# Altium schematic symbol library AnalogDevicesSW.SchLib: 93 symbols (part 2 of 3)
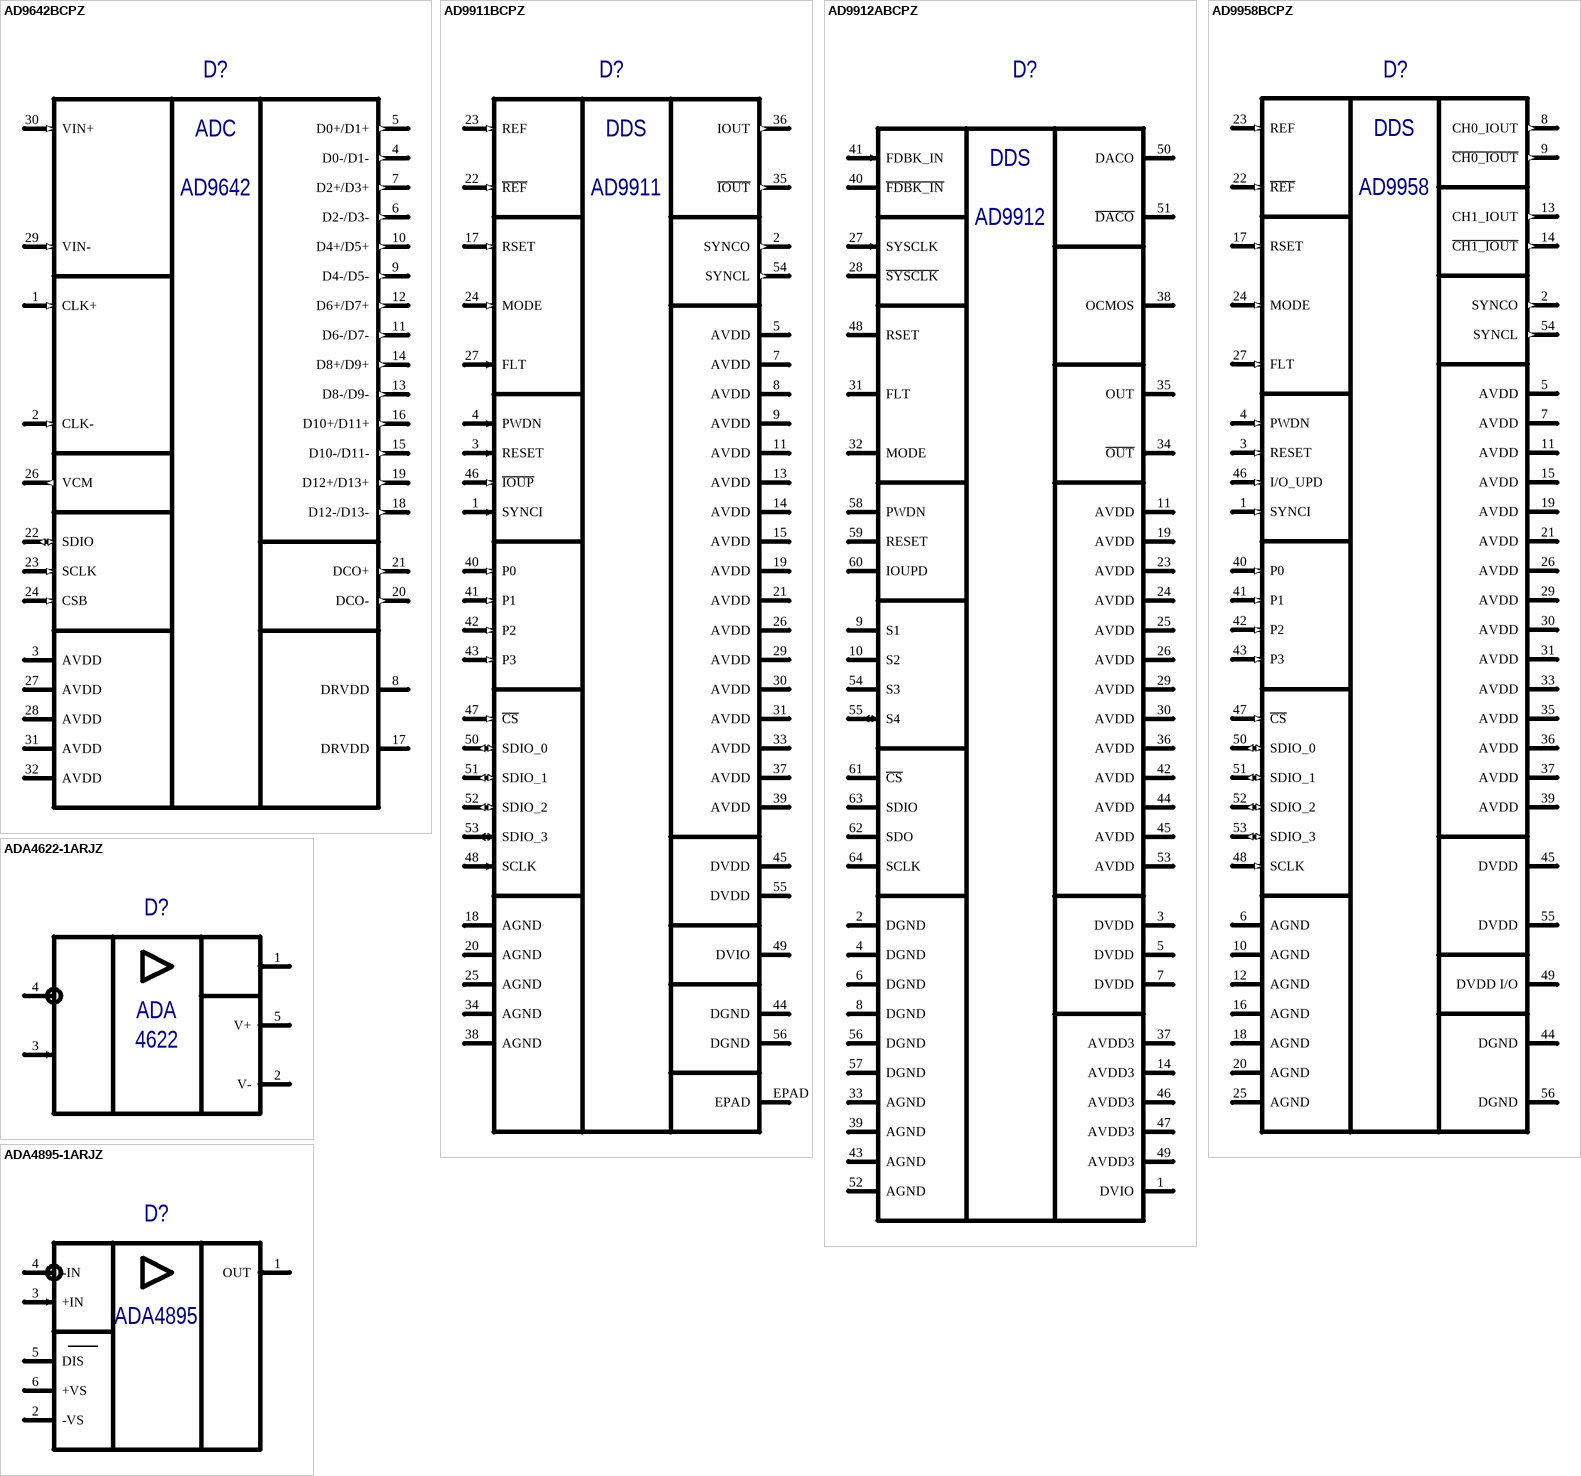
[diagram p11: symbols AD9642BCPZ to ADA4895-1ARJZ]

## AD9911BCPZ
designator D?  (value not drawn)
500 MSPS Direct Digital Synthesizer; Manufacturer: Analog Devices; Type: Микросхема; BCPId: *; Name: *; Package: CP-56-1; ManufacturerPartNumber: AD9911BCPZ; HelpURL: *; Price: *; Rem: *; TU/GOST: *
footprint QFN50P800X800X100-57N (QFN, 56-Leads, Body 8,00x8,00mm, Pitch 0,50mm, Thermal Pad 6,25x6,25mm, IPC Medium Density)
pins: 1 SYNCI (in) "Synchronizes Multiple AD9911 Devices", 2 SYNCO (out) "Synchronizes Multiple AD9911 Devices", 3 RESET (in) "Active High Reset Pin", 4 PWDN (in) "External Power-Down Control", 5 AVDD (power) "Analog Power Supply Pins (1.8 V)", 6 NC hidden "No Connection", 7 AVDD (power) "Analog Power Supply Pins (1.8 V)", 8 AVDD (power) "Analog Power Supply Pins (1.8 V)", 9 AVDD (power) "Analog Power Supply Pins (1.8 V)", 10 NC hidden "No Connection", 11 AVDD (power) "Analog Power Supply Pins (1.8 V)", 12 NC hidden "No Connection", 13 AVDD (power) "Analog Power Supply Pins (1.8 V)", 14 AVDD (power) "Analog Power Supply Pins (1.8 V)", 15 AVDD (power) "Analog Power Supply Pins (1.8 V)", 16 NC hidden "No Connection", 17 RSET (in) "Establishes the Reference Current for the DAC", 18 AGND (power) "Analog Ground Pins", 19 AVDD (power) "Analog Power Supply Pins (1.8 V)", 20 AGND (power) "Analog Ground Pins", 21 AVDD (power) "Analog Power Supply Pins (1.8 V)", 22 ~{REF} (in) "Complementary Reference Clock/Oscillator Input", 23 REF (in) "Reference Clock/Oscillator Input", 24 MODE (in) "Control Pin for the Oscillator", 25 AGND (power) "Analog Ground Pins", 26 AVDD (power) "Analog Power Supply Pins (1.8 V)", 27 FLT (in) "Connects to the External Zero Compensation Network of the PLL Loop Filter", 28 NC hidden "No Connection", 29 AVDD (power) "Analog Power Supply Pins (1.8 V)", 30 AVDD (power) "Analog Power Supply Pins (1.8 V)", 31 AVDD (power) "Analog Power Supply Pins (1.8 V)", 32 NC hidden "No Connection", 33 AVDD (power) "Analog Power Supply Pins (1.8 V)", 34 AGND (power) "Analog Ground Pins", 35 ~{IOUT} (out) "Complementary DAC Output", 36 IOUT (out) "True DAC Output", 37 AVDD (power) "Analog Power Supply Pins (1.8 V)", 38 AGND (power) "Analog Ground Pins", 39 AVDD (power) "Analog Power Supply Pins (1.8 V)", 40 P0 (in) "These data pins are used for modulation", 41 P1 (in) "These data pins are used for modulation", 42 P2 (in) "These data pins are used for modulation", 43 P3 (in) "These data pins are used for modulation", 44 DGND (power) "Digital Power Ground Pins", 45 DVDD (power) "Digital Power Supply Pins (1.8 V)", 46 ~{IOUP} (in) "A rising edge triggers data transfer from the I/O port buffer to active registers", 47 ~{CS} (in) "The active low chip select allows multiple devices to share a common I/O bus (SPI)", 48 SCLK (in) "Data Clock for I/O Operations", 49 DVIO (power) "3.3 V Digital Power Supply for SPI Port and Digital I/O", 50 SDIO_0 (io) "Data pin SDIO_0 is dedicated to the I/O port only", 51 SDIO_1 (io) "Data pins SDIO_1:3 can be used for the I/O port", 52 SDIO_2 (io) "Data pins SDIO_1:3 can be used for the I/O port", 53 SDIO_3 (io) "Data pins SDIO_1:3 can be used for the I/O port", 54 SYNCL (out) "The SYNC_CLK, which runs at ? the system clock rate, can be disabled", 55 DVDD (power) "Digital Power Supply Pins (1.8 V)", 56 DGND (power) "Digital Power Ground Pins", EPAD (power) "Exposed Paddle. The exposed paddle must be connected to AGND."
text: DDS; AD9911

## AD9912ABCPZ
designator D?  (value not drawn)
1 GSPS Direct Digital Synthesizer with 14-bit DAC; Manufacturer: Analog Devices; Type: Микросхема; SymAuthor: Ерешко П.А.; BCPId: *; Name: *; Package: CP-64-7; ManufacturerPartNumber: AD9912ABCPZ; HelpURL: *; Price: *; Rem: *; TU/GOST: *
footprint QFN50P900X900X100-65N (QFN, 64-Leads, Body 9,0x9,0mm (max), Pitch 0,50mm, IPC Medium Density)
footprint QFN50P900X900X100-65N - HS1 (QFN, 64-Leads, Body 9,0x9,0mm (max), Pitch 0,50mm, IPC Medium Density)
pins: 1 DVIO "I/O Digital Supply", 2 DGND "Digital Ground", 3 DVDD "Digital Supply", 4 DGND "Digital Ground", 5 DVDD "Digital Supply", 6 DGND "Digital Ground", 7 DVDD "Digital Supply", 8 DGND "Digital Ground", 9 S1 "Start-Up Configuration Pins", 10 S2 "Start-Up Configuration Pins", 11 AVDD "Analog Supply. Connect to a nominal 1.8 V supply", 12 NC hidden "No Connection", 13 NC hidden "No Connection", 14 AVDD3 "Analog Supply. Connect to a nominal 3.3 V supply", 15 NC hidden "No Connection", 16 NC hidden "No Connection", 17 NC hidden "No Connection", 18 NC hidden "No Connection", 19 AVDD "Analog Supply. Connect to a nominal 1.8 V supply", 20 NC hidden "No Connection", 21 NC hidden "No Connection", 22 NC hidden "No Connection", 23 AVDD "Analog Supply. Connect to a nominal 1.8 V supply", 24 AVDD "Analog Supply. Connect to a nominal 1.8 V supply", 25 AVDD "Analog Supply. Connect to a nominal 1.8 V supply", 26 AVDD "Analog Supply. Connect to a nominal 1.8 V supply", 27 SYSCLK (in) "System Clock Input", 28 ~{SYSCLK} "Complementary System Clock", 29 AVDD "Analog Supply. Connect to a nominal 1.8 V supply", 30 AVDD "Analog Supply. Connect to a nominal 1.8 V supply", 31 FLT "System Clock Multiplier Loop Filter", 32 MODE "Clock Mode Select", 33 AGND "Analog Ground", 34 ~{OUT} (out) "Complementary HSTL Output", 35 OUT "HSTL Output", 36 AVDD "Analog Supply. Connect to a nominal 1.8 V supply", 37 AVDD3 "Analog Supply for CMOS Output Driver. This pin is normally 3.3 V but can be 1.8 V", 38 OCMOS "CMOS Output", 39 AGND "Analog Ground", 40 ~{FDBK_IN} "Complementary Feedback Input", 41 FDBK_IN (in) "Feedback Input", 42 AVDD "Analog Supply. Connect to a nominal 1.8 V supply", 43 AGND "Analog Ground", 44 AVDD "Analog Supply. Connect to a nominal 1.8 V supply", 45 AVDD "Analog Supply. Connect to a nominal 1.8 V supply", 46 AVDD3 "Analog Supply. Connect to a nominal 3.3 V supply", 47 AVDD3 "Analog Supply. Connect to a nominal 3.3 V supply", 48 RSET "DAC Output Current Setting Resistor", 49 AVDD3 "Analog Supply. Connect to a nominal 3.3 V supply", 50 DACO "DAC Output", 51 ~{DACO} "Complementary DAC Output", 52 AGND "Analog Ground", 53 AVDD "Analog Supply. Connect to a nominal 1.8 V supply", 54 S3 "Start-Up Configuration Pins", 55 S4 (io) "Start-Up Configuration Pins", 56 DGND "Digital Ground", 57 DGND "Digital Ground", 58 PWDN "Power-Down", 59 RESET "Chip Reset", 60 IOUPD "I/O Update", 61 ~{CS} "Chip Select", 62 SDO "Serial Data Output", 63 SDIO "Serial Data Input/Output", 64 SCLK "Serial Programming Clock", EPAD GND hidden to GND "The exposed die pad must be connected to GND"
text: DDS; AD9912

## AD9958BCPZ
designator D?  (value not drawn)
2-Channel, 500 MSPS DDS  with 10-Bit DACs; Manufacturer: Analog Devices; Type: Микросхема; SymAuthor: Юдин Д.Г.; BCPId: *; Name: *; Package: CP-56-1; ManufacturerPartNumber: AD9958BCPZ; HelpURL: *; Price: *; Rem: *; TU/GOST: *
footprint QFN50P800X800X100-57N (QFN, 56-Leads, Body 8,00x8,00mm, Pitch 0,50mm, Thermal Pad 6,25x6,25mm, IPC Medium Density)
pins: 1 SYNCI (in) "Synchronizes Multiple AD9958 Devices", 2 SYNCO (out) "Synchronizes Multiple AD9958 Devices", 3 RESET (in) "Active High Reset Pin", 4 PWDN (in) "External Power-Down Control", 5 AVDD (power) "Analog Power Supply Pin (1.8 V)", 6 AGND (power) "Analog Ground Pin.", 7 AVDD (power) "Analog Power Supply Pin (1.8 V)", 8 CH0_IOUT (out) "True DAC Output. Terminates into AVDD.", 9 ~{CH0_IOUT} (out) "Complementary DAC Output. Terminates into AVDD.", 10 AGND (power) "Analog Ground Pin.", 11 AVDD (power) "Analog Power Supply Pin (1.8 V)", 12 AGND (power) "Analog Ground Pin.", 13 CH1_IOUT (out) "True DAC Output. Terminates into AVDD.", 14 ~{CH1_IOUT} (out) "Complementary DAC Output. Terminates into AVDD.", 15 AVDD (power) "Analog Power Supply Pin (1.8 V)", 16 AGND (power) "Analog Ground Pin.", 17 RSET (in) "Establishes the Reference Current for All DACs. A 1.91 kΩ resistor (nominal) is connected from Pin 17 to AGND.", 18 AGND (power) "Analog Ground Pin", 19 AVDD (power) "Analog Power Supply Pin (1.8 V)", 20 AGND (power) "Analog Ground Pin", 21 AVDD (power) "Analog Power Supply Pin (1.8 V)", 22 ~{REF} (in) "Complementary Reference Clock/Oscillator Input.", 23 REF (in) "Reference Clock/Oscillator Input.", 24 MODE (in) "Control Pin for the Oscillator Section.", 25 AGND (power) "Analog Ground Pin", 26 AVDD (power) "Analog Power Supply Pin (1.8 V)", 27 FLT (in) "Connects to the external zero compensation network of the PLL loop filter.", 28 NC hidden "No Connection.", 29 AVDD (power) "Analog Power Supply Pin (1.8 V)", 30 AVDD (power) "Analog Power Supply Pin (1.8 V)", 31 AVDD (power) "Analog Power Supply Pin (1.8 V)", 32 NC hidden "No Connection", 33 AVDD (power) "Analog Power Supply Pin (1.8 V)", 34 NC hidden "No Connection.", 35 AVDD (power) "Analog Power Supply Pin (1.8 V)", 36 AVDD (power) "Analog Power Supply Pin (1.8 V)", 37 AVDD (power) "Analog Power Supply Pin (1.8 V)", 38 NC hidden "No Connection.", 39 AVDD (power) "Analog Power Supply Pin (1.8 V)", 40 P0 (in) "Data pins used for modulation (FSK, PSK, ASK), to start/stop for the sweep   accumulators, or used to ramp up/ramp down the output amplitude.", 41 P1 (in) "Data pins used for modulation (FSK, PSK, ASK), to start/stop for the sweep   accumulators, or used to ramp up/ramp down the output amplitude.", 42 P2 (in) "Data pins used for modulation (FSK, PSK, ASK), to start/stop for the sweep   accumulators, or used to ramp up/ramp down the output amplitude.", 43 P3 (in) "Data pins used for modulation (FSK, PSK, ASK), to start/stop for the sweep   accumulators, or used to ramp up/ramp down the output amplitude.", 44 DGND (power) "Digital Power Ground Pin.", 45 DVDD (power) "Digital Power Supply Pin (1.8 V)", 46 I/O_UPD (in) "A rising edge transfers data from the serial I/O port buffer to active registers.", 47 ~{CS} (in) "Active Low Chip Select.", 48 SCLK (in) "Serial Data Clock for I/O Operations.", 49 DVDD I/O (power) "3.3 V Digital Power Supply for SPI Port and Digital I/O.", 50 SDIO_0 (io) "Data Pin SDIO_0 is dedicated to the serial port I/O only.", 51 SDIO_1 (io) "Data pins SDIO_1 can be used for the I/O port", 52 SDIO_2 (io) "Data pins SDIO_2 can be used for the I/O port", 53 SDIO_3 (io) "Data pins SDIO_3 can be used for the I/O port", 54 SYNCL (out) "The SYNC_CLK runs at one fourth the system clock rate.", 55 DVDD (power) "Digital Power Supply Pin (1.8 V)", 56 DGND (power) "Digital Power Ground Pin.", EPAD (power) hidden to GND "Exposed Paddle. The exposed paddle must be connected to AGND."
text: DDS; AD9958

## ADA4622-1ARJZ
designator D?  (value not drawn)
30 V, 8 MHz, Low Bias Current, Single-Supply, RRO, Precision Op Amp; Manufacturer: Analog Devices; Type: Микросхема; SymAuthor: Ерешко П.А.; Package: RJ-5; ManufacturerPartNumber: ADA4622-1ARJZ
footprint SOT23-5 (5-Lead Small Outline Transistor Package)
pins: 1 OUT (out), 2 V- (power) "0V power pin", 3 IN+ (in), 4 IN- (in), 5 V+ (power) "5 V to 30 V power pin"
text: ADA; 4622

## ADA4895-1ARJZ
designator D?  (value not drawn)
Low Power, 1 nV/√Hz, G ≥ 10 Stable, Rail-to-Rail  Output Amplifier; Manufacturer: Analog Devices; Type: Микросхема; BCPId: *; Name: *; Package: SOT-23 (RJ-6); ManufacturerPartNumber: ADA4895-1ARJZ
footprint SOT95P280X145-6N (SOT23, 6-Leads, Body 1,6x2,9mm, Pitch 0,95mm)
pins: 1 OUT (out), 2 -VS (power) "0V power pin", 3 +IN (in), 4 -IN (in), 5 DIS (power) "5 V to 30 V power pin", 6 +VS (power) "5 V to 30 V power pin"
text: ADA4895

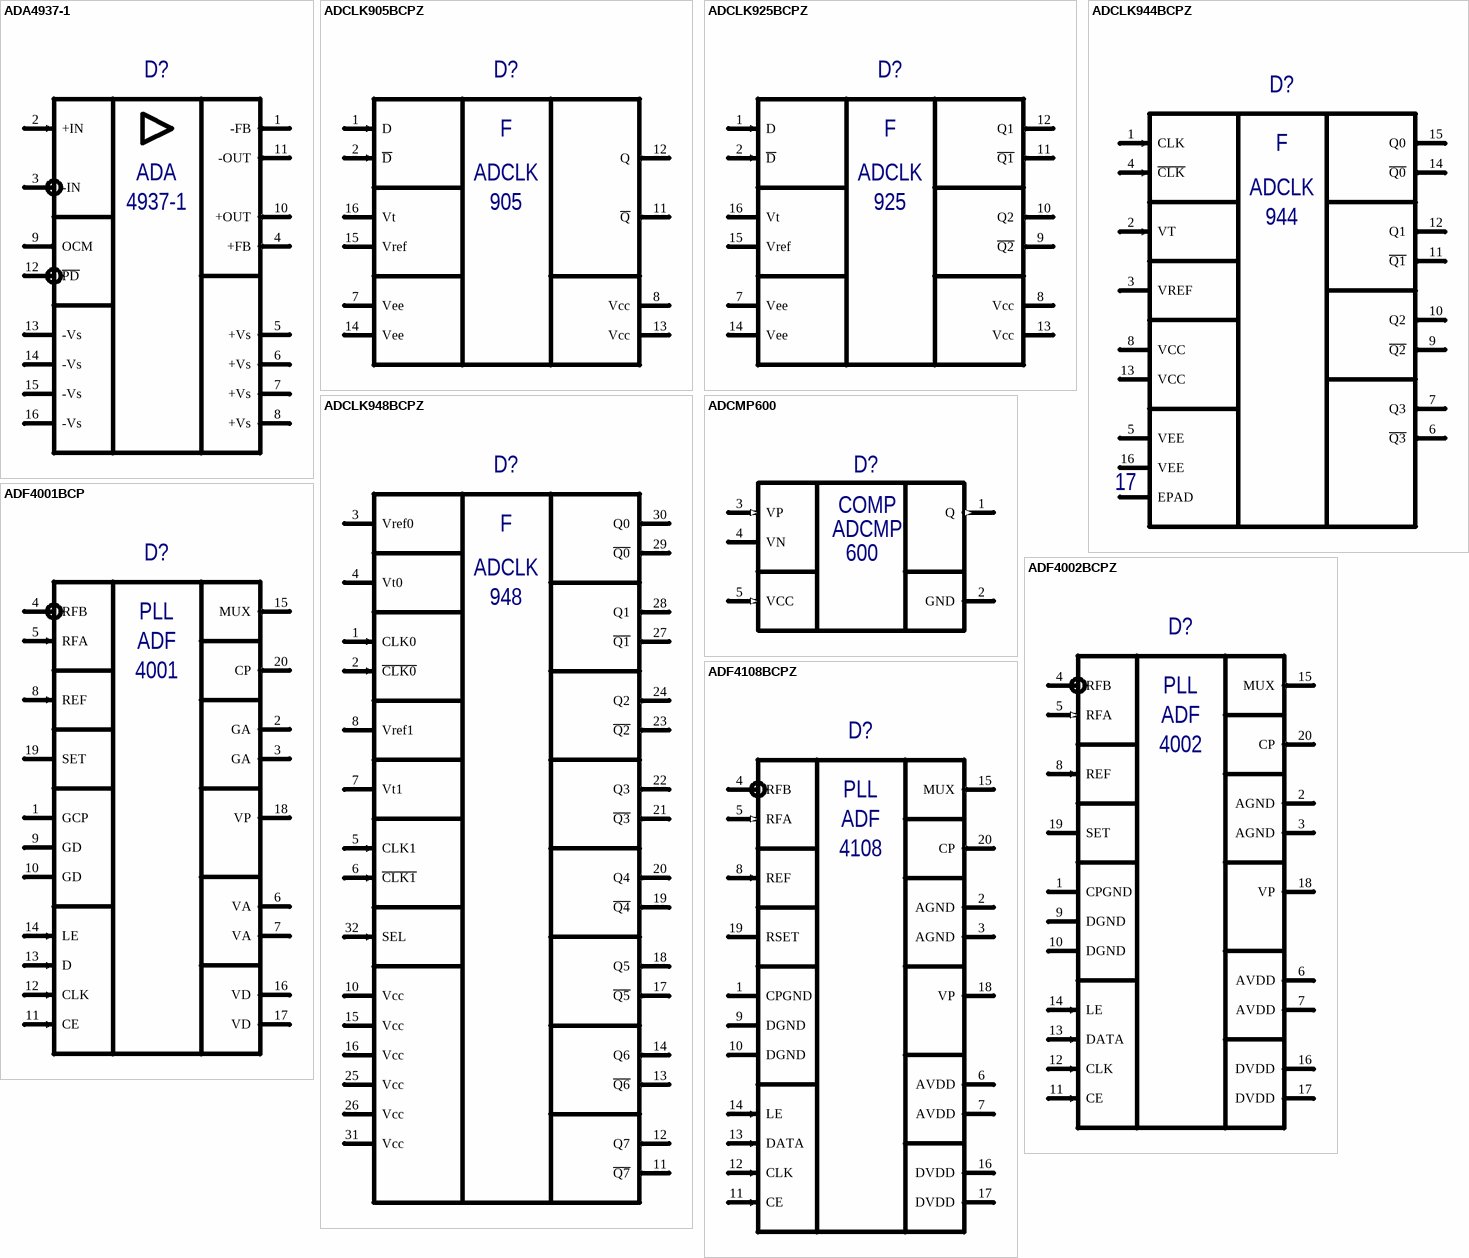
[diagram p5: symbols ADA4937-1 to ADF4108BCPZ]

## ADA4937-1
designator D?, comment ADA4937-1****-**  (value not drawn)
Ultralow Distortion  Differential ADC Driver; Manufacturer: Analog Devices; Type: Микросхема; SymAuthor: Ерешко П.А.; BCPId: *; Name: *; Package: CP-16-21; ManufacturerPartNumber: ADA4937-1****-**
footprint QFN50P300X300X80_HS145x145-17N (QFN, 16-Leads, Body 3,00x3,00mm, Pitch 0,50mm, Thermal Pad 1,45x1,45mm, IPC Medium Density)
pins: 1 -FB (out) "Negative Output for Feedback Component Connection", 2 +IN (in) "Positive Input Summing Node", 3 -IN (in) "Negative Input Summing Node", 4 +FB (out) "Positive Output for Feedback  Component Connection", 5 +Vs (power) "Positive Supply Voltage", 6 +Vs (power) "Positive Supply Voltage", 7 +Vs (power) "Positive Supply Voltage", 8 +Vs (power) "Positive Supply Voltage", 9 OCM (out) "Output Common-Mode Voltage", 10 +OUT (out) "Positive Output for Load Connection", 11 -OUT (out) "Negative Output for Load Connection", 12 ~{PD} (in) "Power-Down Pin", 13 -Vs (power) "Negative Supply Voltage", 14 -Vs (power) "Negative Supply Voltage", 15 -Vs (power) "Negative Supply Voltage", 16 -Vs (power) "Negative Supply Voltage"
text: ADA; 4937-1

## ADCLK905BCPZ
designator D?  (value not drawn)
Ultrafast SiGe ECL Clock/Data Buffer; Manufacturer: Analog Devices; Type: Микросхема; SymAuthor: Ерешко П.А.; BCPId: *; Name: *; Package: CP-16-3; ManufacturerPartNumber: ADCLK905BCPZ; HelpURL: *; Price: *; Rem: *; TU/GOST: *
footprint QFN50P300X300X90_HS165x165-17N (QFN, 16-Leads, Body 3,00x3,00mm, Pitch 0,50mm, Thermal Pad 1,65x1,65mm, IPC Medium Density)
pins: 1 D (in) "Differential input positive", 2 ~{D} (in) "Differential input negative", 3 hidden "No connection", 4 hidden "No connection", 5 hidden "No connection", 6 hidden "No connection", 7 Vee (power) "Negative Supply Voltage", 8 Vcc (power) "Positive Supply Voltage", 9 NC hidden "No Connect.", 10 NC hidden "No Connect.", 11 ~{Q} (out) "Differential LVPECL output", 12 Q (out) "Differential LVPECL output", 13 Vcc (power) "Positive Supply Voltage", 14 Vee (power) "Negative Supply Voltage", 15 Vref "Reference voltage for biasing ac-coupled inputs", 16 Vt (power) "Center tap of 100 Ohm input resistor", EPAD NC hidden "No Connect."
text: F; ADCLK; 905

## ADCLK925BCPZ
designator D?  (value not drawn)
Ultrafast SiGe ECL Clock/Data Buffers; Manufacturer: Analog Devices; Type: Микросхема; BCPId: *; Name: *; Package: CP-16-3; ManufacturerPartNumber: ADCLK925BCPZ; HelpURL: *; Price: *; Rem: *; TU/GOST: *
footprint QFN50P300X300X90_HS165x165-17N (QFN, 16-Leads, Body 3,00x3,00mm, Pitch 0,50mm, Thermal Pad 1,65x1,65mm, IPC Medium Density)
pins: 1 D (in) "Differential input positive", 2 ~{D} (in) "Differential input negative", 3 hidden "No connection", 4 hidden "No connection", 5 hidden "No connection", 6 hidden "No connection", 7 Vee (power) "Negative Supply Voltage", 8 Vcc (power) "Positive Supply Voltage", 9 ~{Q2} (out) "Differential LVPECL output", 10 Q2 (out) "Differential LVPECL output", 11 ~{Q1} (out) "Differential LVPECL output", 12 Q1 (out) "Differential LVPECL output", 13 Vcc (power) "Positive Supply Voltage", 14 Vee (power) "Negative Supply Voltage", 15 Vref "Reference voltage for biasing ac-coupled inputs", 16 Vt (power) "Center tap of 100 Ohm input resistor", EPAD NC hidden "No Connect."
text: F; ADCLK; 925

## ADCLK944BCPZ
designator D?  (value not drawn)
Four LVPECL Outputs,  SiGe Clock Fanout Buffer; Manufacturer: Analog Devices; Type: Микросхема; SymAuthor: Антонов М.С.; BCPId: *; HelpURL: *; ManufacturerPartNumber: ADCLK944BCPZ; Name: *; Package: CP-16-18; Price: *; Rem: *; TU/GOST: *
footprint QFN50P300X300X80_HS160x160-17N (QFN, 16-Leads, Body 3,00x3,00mm, Pitch 0,50mm, Thermal Pad 1,60x1,60mm, IPC Medium Density)
pins: 1 CLK  (in) "Differential Input (Positive).", 2 VT  (in) "Center Tap. This pin provides the center tap of a 100 Ω input resistor for the CLK and CLKinputs.", 3 VREF  (power) "Reference Voltage. This pin provides the reference voltage for biasing ac-coupled CLK and CLKinputs.", 4 ~{CLK} (in) "Differential Input (Negative).", 5 VEE  (power) "Negative Supply Pin.", 6 ~{Q3} (out) "Differential LVPECL Outputs.", 7 Q3 (out) "Differential LVPECL Outputs.", 8 VCC (power) "Positive Supply Pin.", 9 ~{Q2} (out) "Differential LVPECL Outputs.", 10 Q2 (out) "Differential LVPECL Outputs.", 11 ~{Q1} (out) "Differential LVPECL Outputs.", 12 Q1 (out) "Differential LVPECL Outputs.", 13 VCC (power) "Positive Supply Pin.", 14 ~{Q0} (out) "Differential LVPECL Outputs.", 15 Q0 (out) "Differential LVPECL Outputs.", 16 VEE  (power) "Negative Supply Pin.", EPAD (power) "The exposed pad must be connected to VEE."
text: F; ADCLK; 944; 17

## ADCLK948BCPZ
designator D?  (value not drawn)
Two Selectable Inputs, 8 LVPECL Outputs, SiGe Clock Fanout Buffer; Manufacturer: Analog Devices; Type: Микросхема; BCPId: *; Name: *; Package: CP-32-4; ManufacturerPartNumber: ADCLK948BCPZ; HelpURL: *; Price: *; Rem: *; TU/GOST: *
footprint QFN50P500X500X100-32N+285x285 (QFN, 32-Leads, Body 5,0x5,0mm (max), Pitch 0,50mm, IPC Medium Density with thermal tab 2.85x2.85)
pins: 1 CLK0 (in) "Differential input positive 0", 2 ~{CLK0} (in) "Differential input negative 0", 3 Vref0 "Reference voltage for biasing ac-coupled CLK0 and CLK0 inputs", 4 Vt0 "Center tap of a 100 Ohm input resistor for CLK0 and CLK0 inputs", 5 CLK1 (in) "Differential input positive 1", 6 ~{CLK1} (in) "Differential input negative 1", 7 Vt1 "Center tap of a 100 Ohm input resistor for CLK1 and CLK1 inputs", 8 Vref1 "Reference voltage for biasing ac-coupled CLK1 and CLK1 inputs", 9 NC hidden "No connection", 10 Vcc (power) "3.3 V Power Pin", 11 ~{Q7} (out) "Differential LVPECL output", 12 Q7 (out) "Differential LVPECL output", 13 ~{Q6} (out) "Differential LVPECL output", 14 Q6 (out) "Differential LVPECL output", 15 Vcc (power) "3.3 V Power Pin", 16 Vcc (power) "3.3 V Power Pin", 17 ~{Q5} (out) "Differential LVPECL output", 18 Q5 (out) "Differential LVPECL output", 19 ~{Q4} (out) "Differential LVPECL output", 20 Q4 (out) "Differential LVPECL output", 21 ~{Q3} (out) "Differential LVPECL output", 22 Q3 (out) "Differential LVPECL output", 23 ~{Q2} (out) "Differential LVPECL output", 24 Q2 (out) "Differential LVPECL output", 25 Vcc (power) "3.3 V Power Pin", 26 Vcc (power) "3.3 V Power Pin", 27 ~{Q1} (out) "Differential LVPECL output", 28 Q1 (out) "Differential LVPECL output", 29 ~{Q0} (out) "Differential LVPECL output", 30 Q0 (out) "Differential LVPECL output", 31 Vcc (power) "3.3 V Power Pin", 32 SEL (in) "Input Select. Logic 0 selects CLK0 inputs. Logic 1 selects CLK1 inputs.", EPAD (power) hidden to GND "The exposed die pad must be connected to GND"
text: F; ADCLK; 948

## ADCMP600
designator D?, comment ADCMP600BKSZ  (value not drawn)
Rail-to-Rail, Very Fast, 2.5 V to 5.5 V,  Single-Supply TTL/CMOS Comparator; Manufacturer: Analog Devices, Inc.; Type: Микросхема; BCPId: *; Name: *; Package: SC70 5-Lead (KS-5); ManufacturerPartNumber: ADCMP600BKSZ
footprint SOT65P210X110-5N (SOT, 5-Leads, Body 1,25x2,00mmx1.10 (max), Pitch 0,65mm)
pins: 1 Q (out) "Noninverting Output", 2 GND (power), 3 VP (in) "Noninverting Analog Input", 4 VN (power) "Inverting Analog Input", 5 VCC (in) "Input Section Supply/Output Section Supply"
text: COMP; ADCMP; 600

## ADF4001BCP
designator D?  (value not drawn)
200 MHz Clock Generator PLL; Manufacturer: Analog Devices; Type: Микросхема; BCPId: *; Name: *; Package: CP-20; ManufacturerPartNumber: ADF4001BCP
footprint QFN50P400X400X100-20N (QFN, 20-Leads, Body 4,0x4,0mm (max), Pitch 0,50mm, IPC Medium Density)
pins: 1 GCP (power) "Charge Pump Ground", 2 GA (power) "Analog Ground", 3 GA (power) "Analog Ground", 4 RFB (in) "Complementary Input to the N counter", 5 RFA (in) "Input to the N counter", 6 VA (power) "Analog Power Supply", 7 VA (power) "Analog Power Supply", 8 REF (in) "Reference Input", 9 GD (power) "Digital Ground", 10 GD (power) "Digital Ground", 11 CE (in) "Chip Enable", 12 CLK (in) "Serial Clock Input", 13 D (in) "Serial Data Input", 14 LE (in) "Load Enable", 15 MUX (out) "Multiplexer output", 16 VD (power) "Digital Power Supply", 17 VD (power) "Digital Power Supply", 18 VP (power) "Charge Pump Power Supply", 19 SET "Sets the maximum charge pump output current", 20 CP (out) "Charge Pump Output", EPAD hidden to GND "The user should connect thermal pad to AGND"
text: PLL; ADF; 4001

## ADF4002BCPZ
designator D?  (value not drawn)
Phase Detector/Frequency Synthesizer; Manufacturer: Analog Devices; Type: Микросхема; BCPId: *; Name: *; Package: CP-20-1 (LFCSP_VQ); ManufacturerPartNumber: ADF4002BCPZ
footprint QFN50P400X400X100-20N (QFN, 20-Leads, Body 4,0x4,0mm (max), Pitch 0,50mm, IPC Medium Density)
pins: 1 CPGND (power) "Charge Pump Ground", 2 AGND (power) "Analog Ground", 3 AGND (power) "Analog Ground", 4 RFB (in) "Complementary Input to the RF Input", 5 RFA (in) "Complementary Input to the N counter", 6 AVDD (power) "Analog Power Supply", 7 AVDD (power) "Analog Power Supply", 8 REF (in) "Reference Input", 9 DGND (power) "Digital Ground", 10 DGND (power) "Digital Ground", 11 CE (in) "Chip Enable", 12 CLK (in) "Serial Clock Input", 13 DATA (in) "Serial Data Input", 14 LE (in) "Load Enable", 15 MUX (out) "Multiplexer output", 16 DVDD (power) "Digital Power Supply", 17 DVDD (power) "Digital Power Supply", 18 VP (power) "Charge Pump Power Supply", 19 SET (power) "Sets the maximum charge pump output current", 20 CP (out) "Charge Pump Output", EPAD (power) hidden to GND "The user should connect thermal pad to AGND"
text: PLL; ADF; 4002

## ADF4108BCPZ
designator D?  (value not drawn)
PLL Frequency Synthesizer; Manufacturer: Analog Devices; Type: Микросхема; SymAuthor: Юдин Д.Г.; BCPId: *; Name: *; Package: CP-20-6 (LFCSP_WQ); ManufacturerPartNumber: ADF4108BCPZ
footprint QFN50P400X400X100-20N (QFN, 20-Leads, Body 4,0x4,0mm (max), Pitch 0,50mm, IPC Medium Density)
pins: 1 CPGND (power) "Charge Pump Ground", 2 AGND (power) "Analog Ground", 3 AGND (power) "Analog Ground", 4 RFB (in) "Complementary Input to the RF Input", 5 RFA (in) "Complementary Input to the N counter", 6 AVDD (power) "Analog Power Supply", 7 AVDD (power) "Analog Power Supply", 8 REF (in) "Reference Input", 9 DGND (power) "Digital Ground", 10 DGND (power) "Digital Ground", 11 CE (in) "Chip Enable", 12 CLK (in) "Serial Clock Input", 13 DATA (in) "Serial Data Input", 14 LE (in) "Load Enable", 15 MUX (out) "Multiplexer output", 16 DVDD (power) "Digital Power Supply", 17 DVDD (power) "Digital Power Supply", 18 VP (power) "Charge Pump Power Supply", 19 RSET (power) "Sets the maximum charge pump output current", 20 CP (out) "Charge Pump Output", EPAD (power) hidden to GND "The user should connect thermal pad to AGND"
text: PLL; ADF; 4108

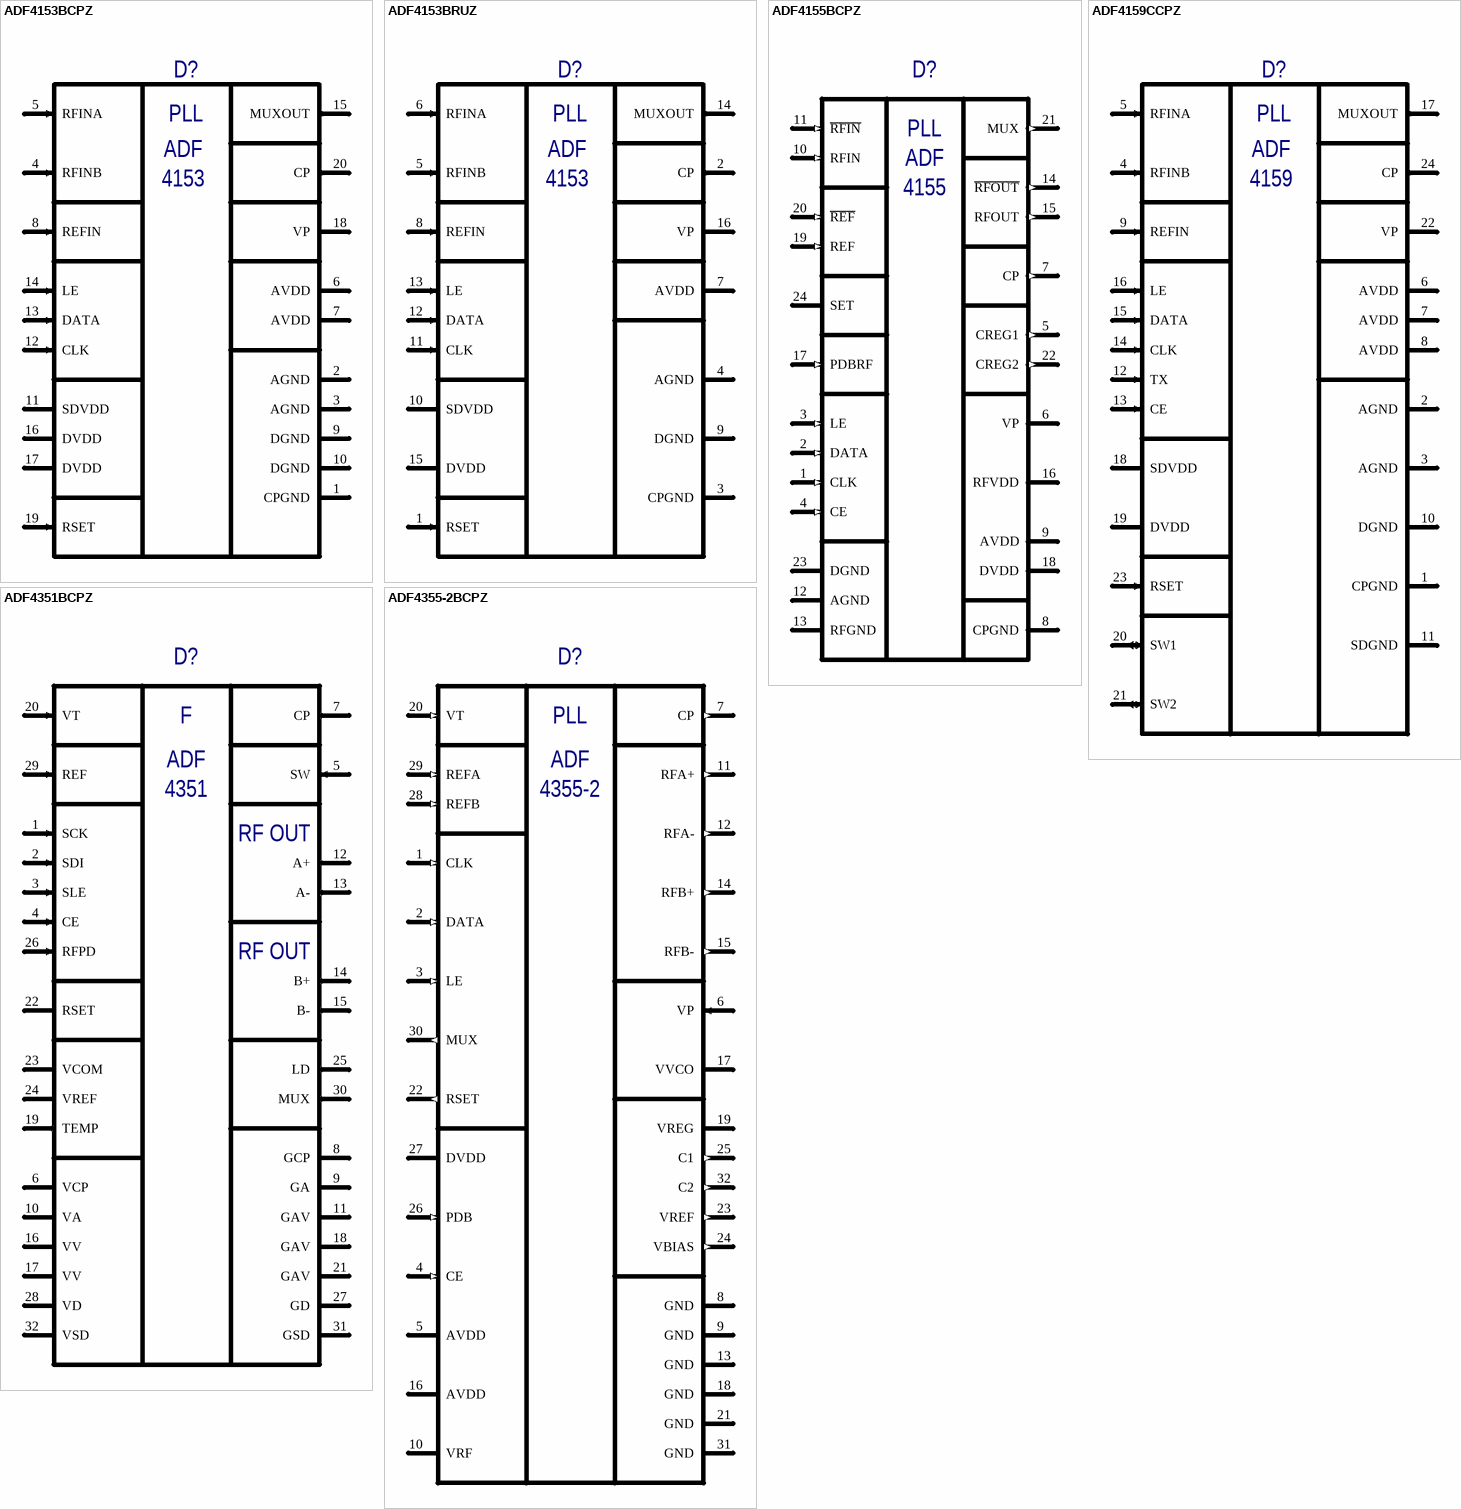
[diagram p6: symbols ADF4153BCPZ to ADF4355-2BCPZ]

## ADF4153BCPZ
designator D?  (value not drawn)
4 GHz Microwave PLL Synthesizer; Manufacturer: Analog Devices; Type: Микросхема; SymAuthor: Юдин Д.Г.; BCPId: *; Package: CP-20-1; ManufacturerPartNumber: ADF4153BCPZ
footprint QFN50P400X400X100-20N (QFN, 20-Leads, Body 4,0x4,0mm (max), Pitch 0,50mm, IPC Medium Density)
pins: 1 CPGND (power) "CP GND", 2 AGND (power) "Analog GND", 3 AGND (power) "Analog GND", 4 RFINB (in), 5 RFINA (in), 6 AVDD (power) "Analog Power Supply", 7 AVDD (power) "Analog Power Supply", 8 REFIN (in) "Reference Input. This is a CMOS input with a nominal threshold of DVDD/2 and a dc equivalent input   resistance of 100 kΩ", 9 DGND (power) "Digital GND", 10 DGND (power) "Digital GND", 11 SDVDD (power) "SDVdd", 12 CLK (in) "Serial Clock Input", 13 DATA (in) "Serial Data Input", 14 LE (in) "Load Enable", 15 MUXOUT (out) "This multiplexer output allows either the lock detect, the scaled RF, or the scaled reference frequency to be   accessed externally.", 16 DVDD (power) "Digital Power Supply", 17 DVDD (power) "Digital Power Supply", 18 VP (power) "Charge Pump Power Supply.", 19 RSET (in) "Rset", 20 CP (out) "Charge Pump Output", EPAD (power) hidden to GND "Exposed Pad. The exposed pad must be connected to GND."
text: PLL; ADF; 4153

## ADF4153BRUZ
designator D?  (value not drawn)
4 GHz Microwave PLL Synthesizer; Manufacturer: Analog Devices; Type: Микросхема; BCPId: *; Package: RU-16; ManufacturerPartNumber: ADF4153BRUZ
footprint SOP65P640X120-16N (SOP, 16-Leads, Body 5,00x4,40mm, Pitch 0,65mm, IPC Medium Density)
pins: 1 RSET (in) "Rset", 2 CP (out) "Charge Pump Output", 3 CPGND (power) "CP GND", 4 AGND (power) "Analog GND", 5 RFINB (in), 6 RFINA (in), 7 AVDD (power) "Analog Power Supply", 8 REFIN (in) "Reference Input. This is a CMOS input with a nominal threshold of DVDD/2 and a dc equivalent input   resistance of 100 kΩ", 9 DGND (power) "Digital GND", 10 SDVDD (power) "SDVdd", 11 CLK (in) "Serial Clock Input", 12 DATA (in) "Serial Data Input", 13 LE (in) "Load Enable", 14 MUXOUT (out) "This multiplexer output allows either the lock detect, the scaled RF, or the scaled reference frequency to be   accessed externally.", 15 DVDD (power) "Digital Power Supply", 16 VP (power) "Charge Pump Power Supply."
text: PLL; ADF; 4153

## ADF4155BCPZ
designator D?  (value not drawn)
Integer-N/Fractional-N PLL Synthesizer; Manufacturer: Analog Devices; Type: Микросхема; SymAuthor: Юдин Д.Г.; BCPId: *; Name: *; Package: CP-24-7; ManufacturerPartNumber: ADF4155BCPZ
footprint QFN50P400X400X80_HS-25N (QFN, 24-Leads, Body 4,00x4,00mm, Pitch 0,50mm, Thermal Pad 2,75x2,75mm, IPC Medium Density)
pins: 1 CLK (in) "Serial Clock Input.", 2 DATA (in) "Serial Data Input", 3 LE (in) "Load Enable Input.", 4 CE (in) "Chip Enable.", 5 CREG1 (out) "Output of Internal LDO.", 6 VP (power) "Charge Pump Power Supply.", 7 CP (out) "Charge Pump Output.", 8 CPGND (power) "Charge Pump Ground.", 9 AVDD (power) "Analog Power Supply.", 10 RFIN (in) "RF Input", 11 ~{RFIN} (in) "Complementary RF Input.", 12 AGND (power) "Analog Ground.", 13 RFGND (power) "RF Ground.", 14 ~{RFOUT} (out) "Complementary RF Output.", 15 RFOUT (out) "RF Output.", 16 RFVDD (power) "Analog Power Supply for RF Outputs.", 17 PDBRF (in) "RF Power-Down.", 18 DVDD (power) "Digital Power Supply", 19 REF (in) "Reference Input.", 20 ~{REF} (in) "Complementary Reference Input.", 21 MUX (out) "Multiplexer output", 22 CREG2 (out) "Output of Internal LDO.", 23 DGND (power) "Digital Ground", 24 SET (power) "Connect a resistor between this pin and ground to set the charge pump output current.", EPAD (power) hidden to GND "The user should connect thermal pad to AGND"
text: PLL; ADF; 4155

## ADF4159CCPZ
designator D?  (value not drawn)
13 GHz, Fractional-N Frequency Synthesizer; Manufacturer: Analog Devices; Type: Микросхема; SymAuthor: Юдин Д.Г.; BCPId: *; Package: CP-24-10; ManufacturerPartNumber: ADF4159CCPZ
footprint QFN50P400X400X100-25N (QFN, 24-Leads, Body 4,00x4,00mm, Pitch 0,50mm, Thermal Pad 2.45x2.45mm, IPC Medium Density)
pins: 1 CPGND (power) "CP GND", 2 AGND (power) "Analog GND", 3 AGND (power) "Analog GND", 4 RFINB (in), 5 RFINA (in), 6 AVDD (power) "Analog Power Supply", 7 AVDD (power) "Analog Power Supply", 8 AVDD (power) "Analog Power Supply", 9 REFIN (in) "Reference Input. This is a CMOS input with a nominal threshold of DVDD/2 and a dc equivalent input   resistance of 100 kΩ", 10 DGND (power) "Digital GND", 11 SDGND (power) "SD GND", 12 TX (in) "TX data", 13 CE (in) "Chip enable", 14 CLK (in) "Serial Clock Input", 15 DATA (in) "Serial Data Input", 16 LE (in) "Load Enable", 17 MUXOUT (out) "This multiplexer output allows either the lock detect, the scaled RF, or the scaled reference frequency to be   accessed externally.", 18 SDVDD (power) "SDVdd", 19 DVDD (power) "Digital Power Supply", 20 SW1 (io) "Switches for Fast Lock", 21 SW2 (io) "Switches for Fast Lock", 22 VP (power) "Charge Pump Power Supply.", 23 RSET (in) "Rset", 24 CP (out) "Charge Pump Output. When enabled, this provides ±ICP to the external loop filter, which in turn drives the   external VCO.", EPAD (power) hidden to GND "Exposed Pad. The exposed pad must be connected to GND."
text: PLL; ADF; 4159

## ADF4351BCPZ
designator D?  (value not drawn)
Wideband Synthesizer with Integrated VCO; Manufacturer: Analog Devices; Type: Микросхема; BCPId: *; Name: *; Package: CP-32-2; ManufacturerPartNumber: ADF4351BCPZ; HelpURL: *; Price: *; Rem: *; TU/GOST: *
footprint QFN50P500X500X100-32N+325x325 (QFN, 32-Leads, Body 5,0x5,0mm (max), Pitch 0,50mm, IPC Medium Density with thermal tab 3.25x3.25)
pins: 1 SCK (in) "Serial Clock Signal", 2 SDI (in) "Serial Data In", 3 SLE (in) "Load Enable", 4 CE (in) "Chip Enable", 5 SW (in) "Fast Lock Switch", 6 VCP (power) "Charge Pump Power Supply", 7 CP (out) "Charge Pump Output", 8 GCP (power) "Charge Pump Ground", 9 GA (power) "Analog Ground", 10 VA (power) "Analog Power Supply", 11 GAV (power) "VCO Analog Ground", 12 A+ (out) "VCO Output", 13 A- (out) "VCO Output", 14 B+ (out) "Auxiliary VCO Output", 15 B- (out) "Auxiliary VCO Output", 16 VV (power) "Power Supply for the VCO", 17 VV (power) "Power Supply for the VCO", 18 GAV (power) "VCO Analog Ground", 19 TEMP (out) "Temperature Compensation Output", 20 VT (in) "Control Input to the VCO", 21 GAV (power) "VCO Analog Ground", 22 RSET "Connecting a resistor between this pin and ground sets the charge pump output current", 23 VCOM "Internal Compensation Node", 24 VREF "Reference Voltage", 25 LD (out) "Lock Detect Output Pin", 26 RFPD (in) "RF Power-Down", 27 GD (power) "Digital Ground", 28 VD (power) "Digital Power Supply", 29 REF (in) "Reference Input", 30 MUX (out) "Multiplexer Output", 31 GSD (power) "Digital sigma-delta modulator ground", 32 VSD (power) "Power Supply Pin for the Digital sigma-delta Modulator", EPAD GND (power) hidden to GND "The exposed die pad must be connected to GND"
text: F; ADF; 4351; RF OUT

## ADF4355-2BCPZ
designator D?  (value not drawn)
Wideband Synthesizer with Integrated VCO 54 MHz to 4400 MHz; Manufacturer: Analog Devices; Type: Микросхема; SymAuthor: Гордиенко А.; BCPId: *; Name: *; Package: CP-32-12; ManufacturerPartNumber: ADF4355-2BCPZ; HelpURL: *; Price: *; Rem: *; TU/GOST: *
footprint QFN50P500X500X80-33N (QFN, 32-Leads, Body 5,00x5,00mm, Pitch 0,50mm, Thermal Pad 3,75x3,75mm, IPC Medium Density)
pins: 1 CLK (in) "Serial Clock Input", 2 DATA (in) "Serial Data Input", 3 LE (in) "Load Enable, CMOS Input", 4 CE (in) "Chip Enable", 5 AVDD (power) "Analog Power Supply", 6 VP (in) "Charge Pump Power Supply", 7 CP (out) "Charge Pump Output", 8 GND (power) "Charge Pump Ground", 9 GND (power) "Analog Ground", 10 VRF (power) "Power Supply for the RF Output", 11 RFA+ (out) "VCO Output", 12 RFA- (out) "Complementary VCO Output", 13 GND (power) "RF Output Stage Ground", 14 RFB+ (out) "Auxiliary VCO Output", 15 RFB- (out) "Complementary Auxiliary VCO Output", 16 AVDD (power) "Analog Power Supply", 17 VVCO (power) "Power Supply for the VCO", 18 GND (power) "VCO Ground", 19 VREG "VCO Compensation Node", 20 VT (in) "Control Input to the VCO", 21 GND (power) "VCO Ground", 22 RSET (out) "Bias Current Resistor", 23 VREF (out) "Internal Compensation Node", 24 VBIAS (out) "Reference Voltage", 25 C1 (out) "Outputs from the LDO Regulator", 26 PDB (in) "RF Power-Down", 27 DVDD (power) "Digital Power Supply", 28 REFB (in) "Complementary Reference Input", 29 REFA (in) "Reference Input", 30 MUX (out) "Multiplexer Output", 31 GND (power) "Digital Σ-Δ Modulator Ground", 32 C2 (out) "Outputs from the LDO Regulator", EPAD GND (power) hidden to GND "Exposed Pad"
text: PLL; ADF; 4355-2

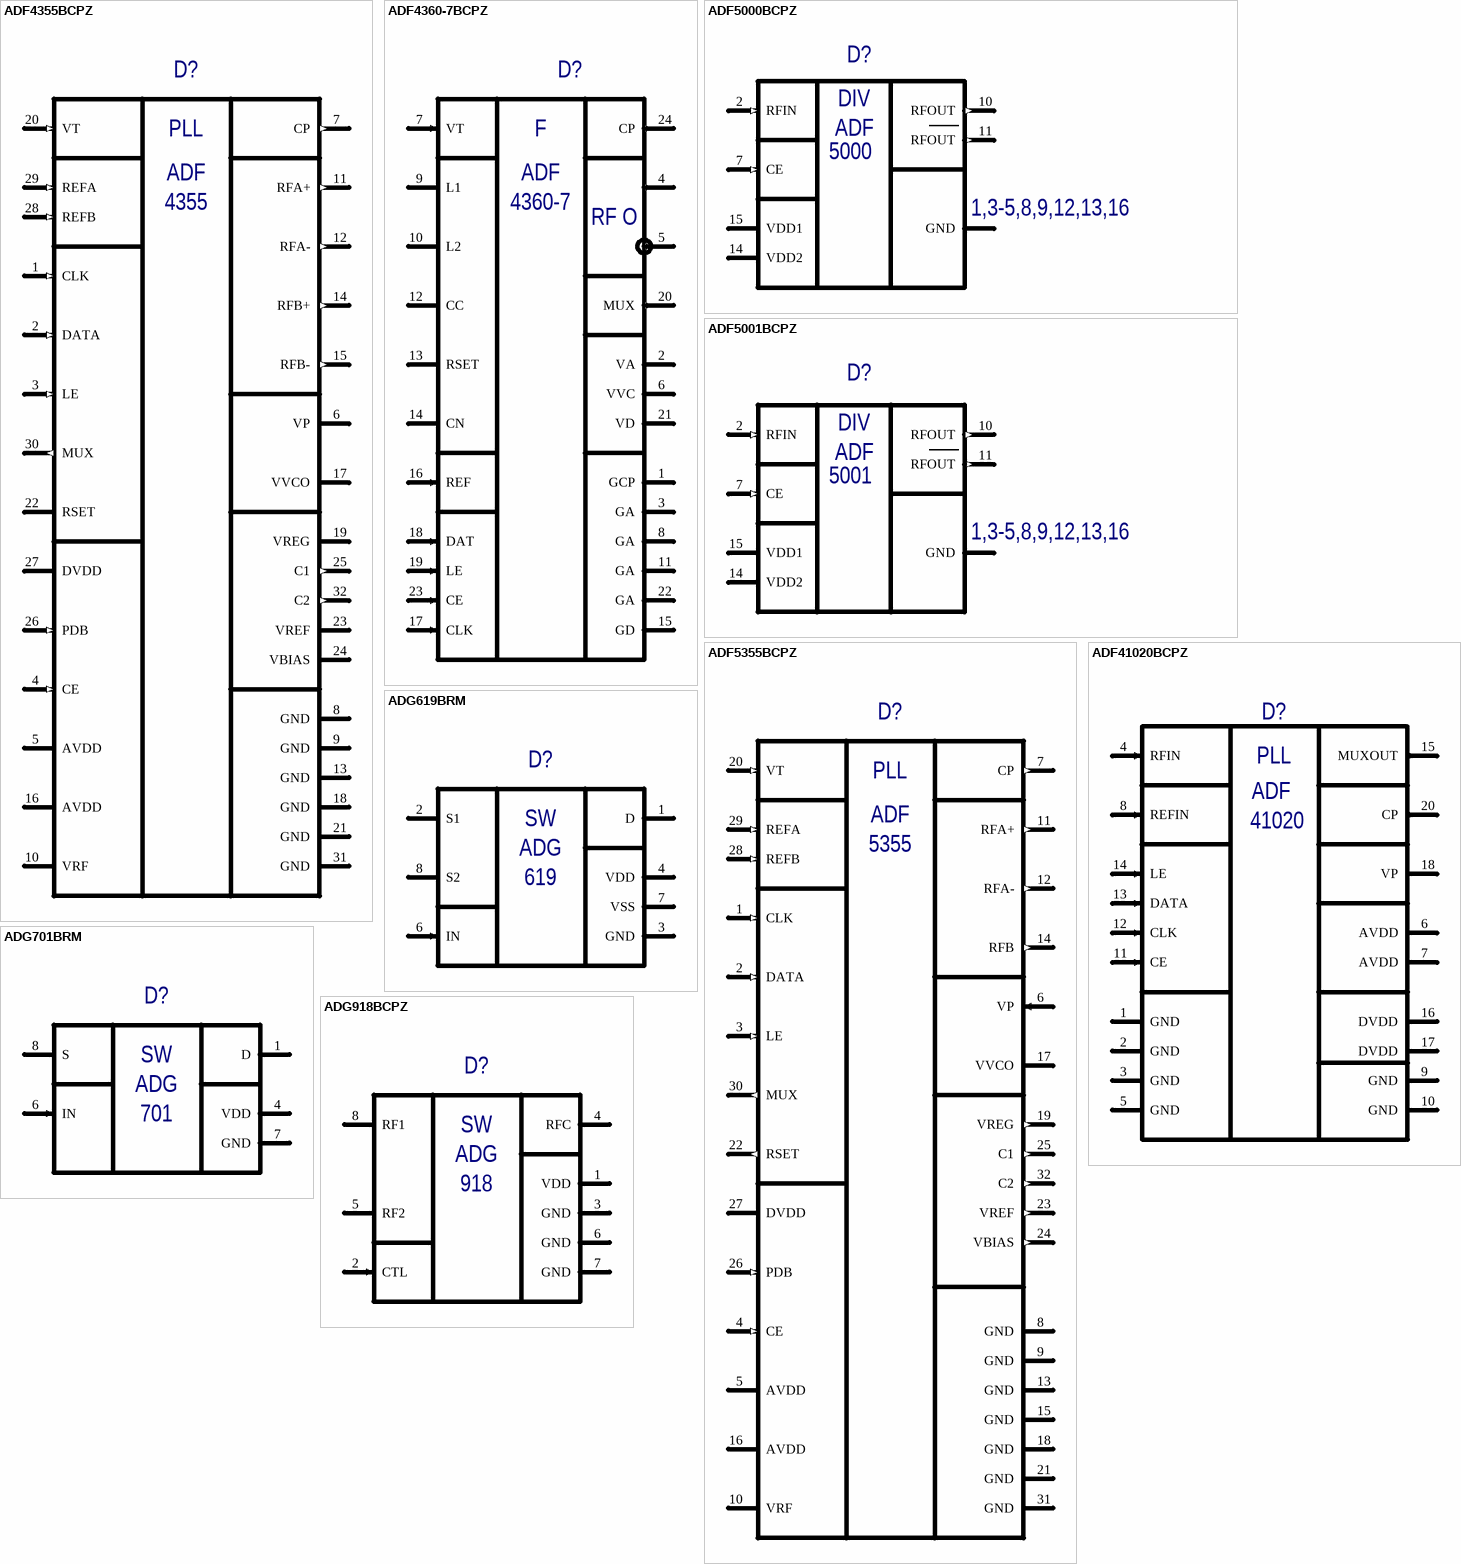
[diagram p7: symbols ADF4355BCPZ to ADG918BCPZ]

## ADF4355BCPZ
designator D?  (value not drawn)
Wideband Synthesizer with Integrated VCO 54 MHz to 6800 MHz; Manufacturer: Analog Devices; Type: Микросхема; BCPId: *; Name: *; Package: CP-32-12; ManufacturerPartNumber: ADF4355BCPZ; HelpURL: *; Price: *; Rem: *; TU/GOST: *
footprint QFN50P500X500X80-33N (QFN, 32-Leads, Body 5,00x5,00mm, Pitch 0,50mm, Thermal Pad 3,75x3,75mm, IPC Medium Density)
pins: 1 CLK (in) "Serial Clock Input", 2 DATA (in) "Serial Data Input", 3 LE (in) "Load Enable, CMOS Input", 4 CE (in) "Chip Enable", 5 AVDD (power) "Analog Power Supply", 6 VP (power) "Charge Pump Power Supply", 7 CP (out) "Charge Pump Output", 8 GND (power) "Charge Pump Ground", 9 GND (power) "Analog Ground", 10 VRF (power) "Power Supply for the RF Output", 11 RFA+ (out) "VCO Output", 12 RFA- (out) "Complementary VCO Output", 13 GND (power) "RF Output Stage Ground", 14 RFB+ (out) "Auxiliary VCO Output", 15 RFB- (out) "Complementary Auxiliary VCO Output", 16 AVDD (power) "Analog Power Supply", 17 VVCO (power) "Power Supply for the VCO", 18 GND (power) "VCO Ground", 19 VREG "VCO Compensation Node", 20 VT (in) "Control Input to the VCO", 21 GND (power) "VCO Ground", 22 RSET "Bias Current Resistor", 23 VREF "Internal Compensation Node", 24 VBIAS "Reference Voltage", 25 C1 (out) "Outputs from the LDO Regulator", 26 PDB (in) "RF Power-Down", 27 DVDD (power) "Digital Power Supply", 28 REFB (in) "Complementary Reference Input", 29 REFA (in) "Reference Input", 30 MUX (out) "Multiplexer Output", 31 GND (power) "Digital Σ-Δ Modulator Ground", 32 C2 (out) "Outputs from the LDO Regulator", EPAD GND (power) hidden to GND "Exposed Pad"
text: PLL; ADF; 4355

## ADF4360-7BCPZ
designator D?  (value not drawn)
Wideband Synthesizer with Integrated VCO; Manufacturer: Analog Devices; Type: Микросхема; BCPId: *; Name: *; Package: CP-24-2; ManufacturerPartNumber: ADF4360-7BCPZ; HelpURL: *; Price: *; Rem: *; TU/GOST: *
footprint QFN50P400X400X100-25N (QFN, 24-Leads, Body 4,00x4,00mm, Pitch 0,50mm, Thermal Pad 0,30x0,90mm, IPC Medium Density)
pins: 1 GCP (power) "Charge Pump Ground", 2 VA (power) "Analog Power Supply", 3 GA (power) "Analog Ground", 4 A (out) "VCO Output", 5 B (out) "VCO Complementary Output", 6 VVC (power) "Power Supply for the VCO", 7 VT (in) "Control Input to the VCO", 8 GA (power) "VCO Analog Ground", 9 L1 "An external inductor", 10 L2 "An external inductor", 11 GA (power) "Analog Ground", 12 CC "Internal Compensation Node", 13 RSET "Charge pump output current Rset", 14 CN "Internal Compensation Node", 15 GD (power) "Digital Ground", 16 REF (in) "Reference Input", 17 CLK (in) "Serial Clock Signal", 18 DAT (in) "Serial Data In", 19 LE (in) "Load Enable", 20 MUX (out) "Multiplexer Output", 21 VD (power) "Digital Power Supply", 22 GA (power) "Analog Ground", 23 CE (in) "Chip Enable", 24 CP (out) "Charge Pump Output", EPAD GND (power) hidden to GND "The exposed die pad must be connected to GND"
text: F; ADF; 4360-7; RF O

## ADF5000BCPZ
designator D?  (value not drawn)
4 GHz to 18 GHz   Divide-by-2 Prescaler; Manufacturer*: Analog Devices; Type: Микросхема; BCPId: *; ManufacturerPartNumber: ADF5000BCPZ; Package: CP-16-18
footprint QFN50P300X300X80_HS160x160-17N (QFN, 16-Leads, Body 3,00x3,00mm, Pitch 0,50mm, Thermal Pad 1,60x1,60mm, IPC Medium Density)
pins: 1 GND (power), 2 RFIN (in) "RF input", 3 GND (power) hidden to GND, 4 GND (power) hidden to GND, 5 GND (power) hidden to GND, 6 NC hidden, 7 CE (in) "Chip Enable", 8 GND (power) hidden to GND, 9 GND (power) hidden to GND, 10 RFOUT (out) "Divided output", 11 RFOUT (out) "Divided output 180°", 12 GND (power) hidden to GND, 13 GND (power) hidden to GND, 14 VDD2 (power) "VDD", 15 VDD1 (power) "VDD", 16 GND (power) hidden to GND, EPAD GND (power) hidden to GND "Ground paddle"
text: DIV; ADF; 5000; 1,3-5,8,9,12,13,16

## ADF5001BCPZ
designator D?  (value not drawn)
4 GHz to 18 GHz Divide-by-4 Prescaler; Manufacturer: Analog Devices; Type: Микросхема; BCPId: *; ManufacturerPartNumber: ADF5001BCPZ; Name: *; Package: CP-16-18
footprint QFN50P300X300X80_HS160x160-17N (QFN, 16-Leads, Body 3,00x3,00mm, Pitch 0,50mm, Thermal Pad 1,60x1,60mm, IPC Medium Density)
pins: 1 GND (power), 2 RFIN (in) "RF input", 6 NC (in) hidden "No Connect. This pin can be left unconnected.", 7 CE (in) "Chip Enable", 10 RFOUT (out) "Divided output", 11 RFOUT (out) "Divided output 180°", 14 VDD2 (power) "VDD", 15 VDD1 (power) "VDD", EPAD (power) hidden to GND
text: DIV; ADF; 5001; 1,3-5,8,9,12,13,16

## ADF5355BCPZ
designator D?  (value not drawn)
Microwave Wideband Synthesizer   with Integrated VCO 54 MHz to 13600 MHz; Manufacturer: Analog Devices; Type: Микросхема; BCPId: *; Name: *; Package: CP-32-12; ManufacturerPartNumber: ADF5355BCPZ; HelpURL: *; Price: *; Rem: *; TU/GOST: *
footprint QFN50P500X500X80-33N (QFN, 32-Leads, Body 5,00x5,00mm, Pitch 0,50mm, Thermal Pad 3,75x3,75mm, IPC Medium Density)
pins: 1 CLK (in) "Serial Clock Input", 2 DATA (in) "Serial Data Input", 3 LE (in) "Load Enable, CMOS Input", 4 CE (in) "Chip Enable", 5 AVDD (power) "Analog Power Supply", 6 VP (in) "Charge Pump Power Supply", 7 CP (out) "Charge Pump Output", 8 GND (power) "Charge Pump Ground", 9 GND (power) "Analog Ground", 10 VRF (power) "Power Supply for the RF Output", 11 RFA+ (out) "VCO Output", 12 RFA- (out) "Complementary VCO Output", 13 GND (power) "RF Output Stage Ground", 14 RFB (out) "Auxiliary VCO Output", 15 GND (power) "RF Output Stage Ground", 16 AVDD (power) "Analog Power Supply", 17 VVCO (power) "Power Supply for the VCO", 18 GND (power) "VCO Ground", 19 VREG (out) "VCO Compensation Node", 20 VT (in) "Control Input to the VCO", 21 GND (power) "VCO Ground", 22 RSET (out) "Bias Current Resistor", 23 VREF (out) "Internal Compensation Node", 24 VBIAS (out) "Reference Voltage", 25 C1 (out) "Outputs from the LDO Regulator", 26 PDB (in) "RF Power-Down", 27 DVDD (power) "Digital Power Supply", 28 REFB (in) "Complementary Reference Input", 29 REFA (in) "Reference Input", 30 MUX (out) "Multiplexer Output", 31 GND (power) "Digital Σ-Δ Modulator Ground", 32 C2 (out) "Outputs from the LDO Regulator", EPAD GND (power) hidden to GND "Exposed Pad"
text: PLL; ADF; 5355

## ADF41020BCPZ
designator D?  (value not drawn)
18 GHz Microwave PLL Synthesizer; Manufacturer: Analog Devices; Type: Микросхема; BCPId: *; Name: *; Package: CP-20-6; ManufacturerPartNumber: ADF41020BCPZ
footprint QFN50P400X400X100-20N (QFN, 20-Leads, Body 4,0x4,0mm (max), Pitch 0,50mm, IPC Medium Density)
pins: 1 GND (power) "Ground Pins", 2 GND (power) "Ground Pins", 3 GND (power) "Ground Pins", 4 RFIN (in) "Input to the RF Prescaler. This input is ac-coupled internally.", 5 GND (power) "Ground Pins", 6 AVDD (power) "Analog Power Supply", 7 AVDD (power) "Analog Power Supply", 8 REFIN (in) "Reference Input. This is a CMOS input with a nominal threshold of DVDD/2 and a dc equivalent input   resistance of 100 kΩ", 9 GND (power) "Ground Pins", 10 GND (power) "Ground Pins", 11 CE (in) "Chip Enable", 12 CLK (in) "Serial Clock Input", 13 DATA (in) "Serial Data Input", 14 LE (in) "Load Enable", 15 MUXOUT (out) "This multiplexer output allows either the lock detect, the scaled RF, or the scaled reference frequency to be   accessed externally.", 16 DVDD (power) "Digital Power Supply", 17 DVDD (power) "Digital Power Supply", 18 VP (power) "Charge Pump Power Supply.", 20 CP (out) "Charge Pump Output. When enabled, this provides ±ICP to the external loop filter, which in turn drives the   external VCO.", EPAD (power) hidden to GND "Exposed Pad. The exposed pad must be connected to GND."
text: PLL; ADF; 41020

## ADG619BRM
designator D?  (value not drawn)
Single SPDT Switch; Manufacturer: Analog Devices; Type: Микросхема; BCPId: *; Name: *; Package: RM-8; ManufacturerPartNumber: ADG619BRM
footprint TSOP65P490X110-8N (Shrink Small Outline; 8 Leads; Body Width 3 mm; Pitch 0.65 mm)
pins: 1 D, 2 S1, 3 GND (power), 4 VDD (power), 6 IN (in), 7 VSS (power), 8 S2
text: SW; ADG; 619

## ADG701BRM
designator D?  (value not drawn)
Single SPST Switch; Manufacturer: Analog Devices; Type: Микросхема; BCPId: *; Name: *; Package: RM-8; ManufacturerPartNumber: ADG701BRM
footprint TSOP65P490X110-8N (Shrink Small Outline; 8 Leads; Body Width 3 mm; Pitch 0.65 mm)
pins: 1 D "Drain Terminal. Can be an input or output.", 4 VDD (power) "Most Positive Power Supply Potential.", 6 IN (in) "Logic Control Input.", 7 GND (power) "Ground (0 V) Reference.", 8 S "Source Terminal. Can be an input or output."
text: SW; ADG; 701

## ADG918BCPZ
designator D?  (value not drawn)
Wideband 4 GHz 2:1 Mux/SPDT; Manufacturer: Analog Devices; Type: Микросхема; BCPId: *; Name: *; Package: CP-8-2; ManufacturerPartNumber: ADG918BCPZ
footprint SON50P300X300X90-9N (SON, 8-Leads, Body 3,0x3,0mm (max), Pitch 0,50mm, IPC Medium Density)
pins: 1 VDD (power) "VDD +1.65...2.75 V Power supply", 2 CTL (in) "Logic control input", 3 GND (power), 4 RFC "COMMON RF Port for Switch", 5 RF2 "RF2 port", 6 GND (power), 7 GND (power), 8 RF1 "RF1 port", 9 GND hidden to GND
text: SW; ADG; 918

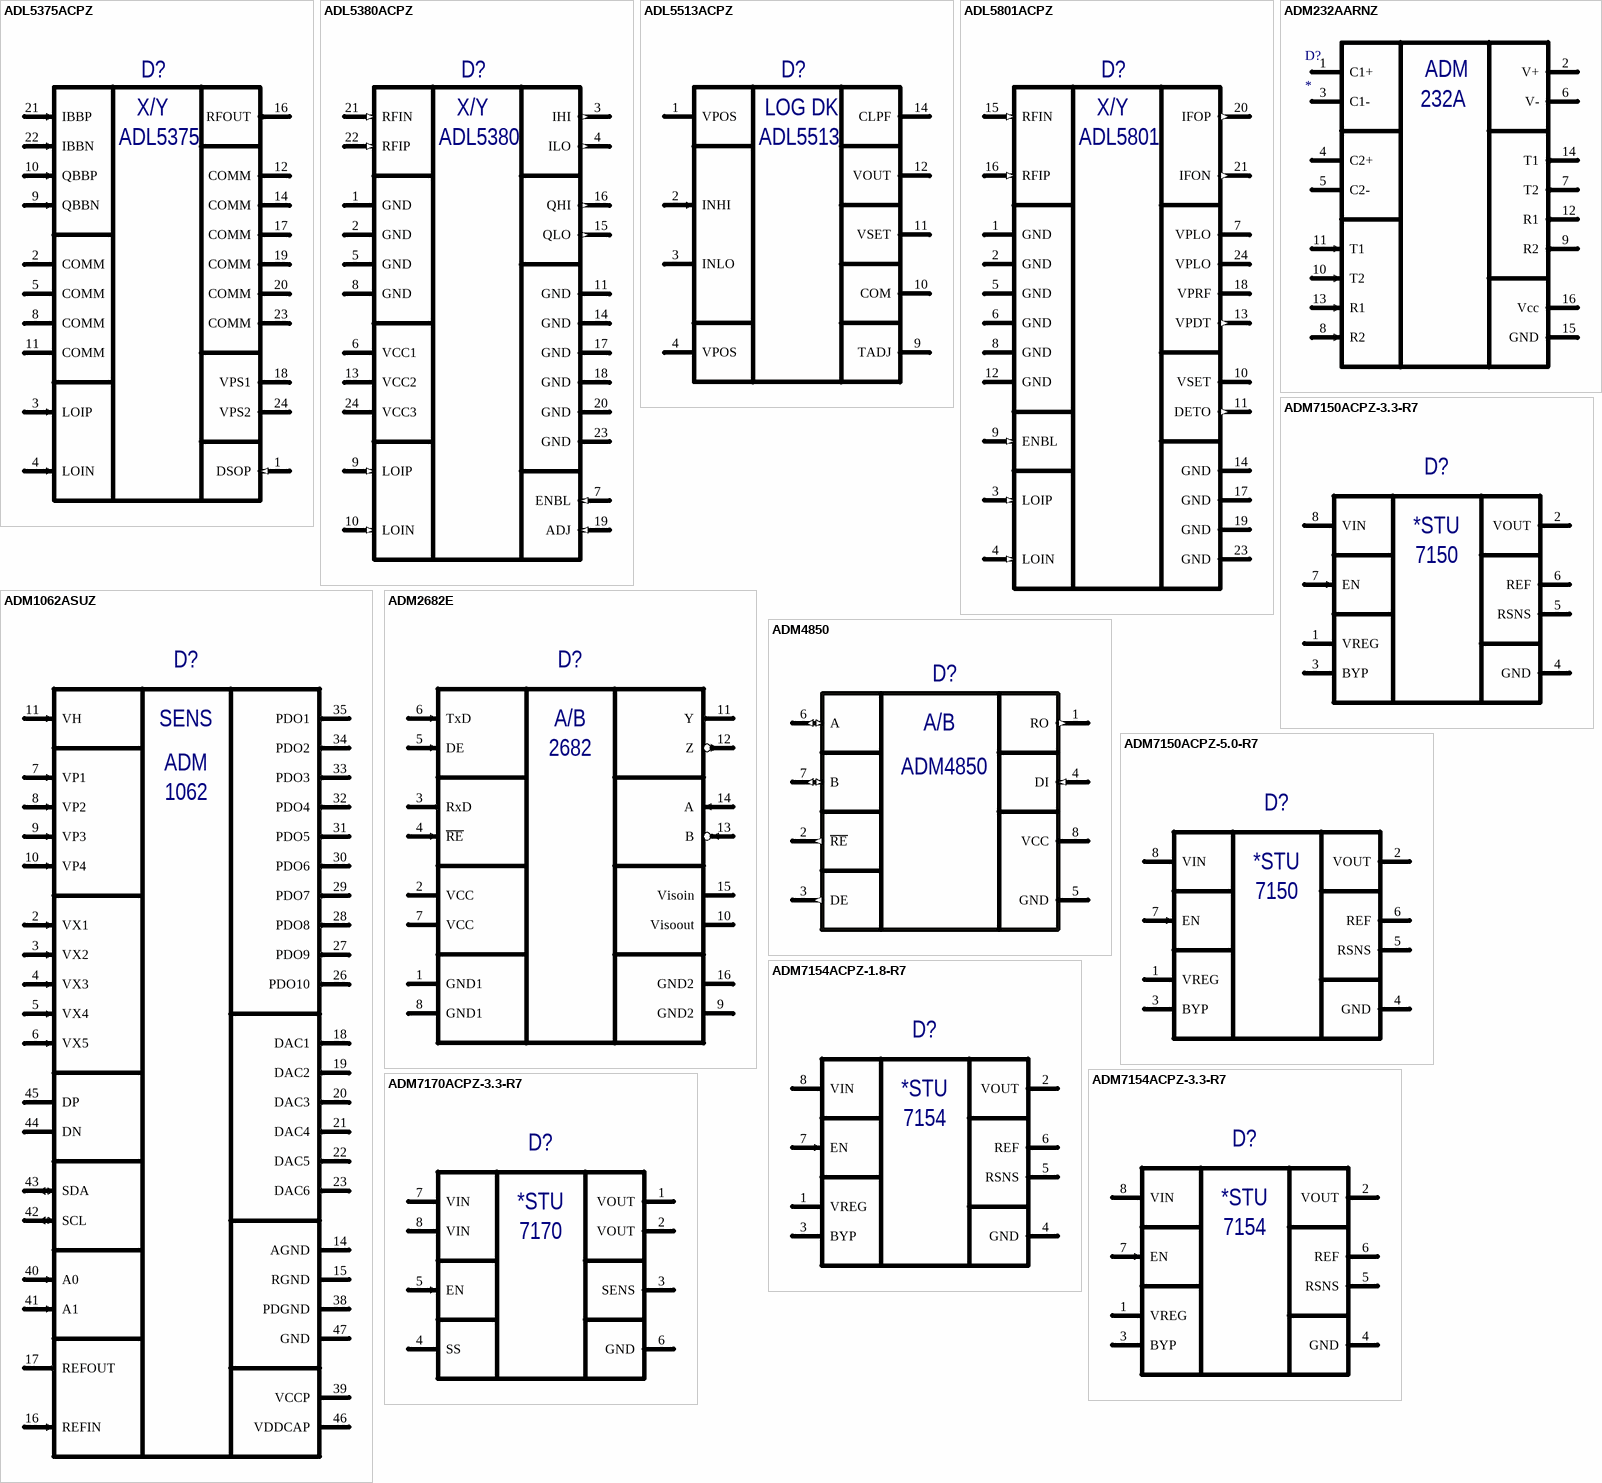
[diagram p8: symbols ADL5375ACPZ to ADM7170ACPZ-3.3-R7]

## ADL5375ACPZ
designator D?  (value not drawn)
400 MHz to 6 GHz Broadband Quadrature Modulator; Manufacturer: Analog Devices; Type: Микросхема; BCPId: *; Name: *; Package: CP-24-3; ManufacturerPartNumber: ADL5375ACPZ; HelpURL: *; Price: *; Rem: *; TU/GOST: *
footprint QFN50P400X400X100_HS280x280-25N (QFN, 24-Leads, Body 4,00x4,00mm, Pitch 0,50mm, Thermal Pad 2,80x2,80mm, IPC Medium Density)
pins: 1 DSOP (in), 2 COMM (power) "Input Common Pins. Connect to ground", 3 LOIP (in) "Local Oscillator Input", 4 LOIN (in) "Local Oscillator Input", 5 COMM (power) "Input Common Pins. Connect to ground", 8 COMM (power) "Input Common Pins. Connect to ground", 9 QBBN (in) "Differential In-Phase and Quadrature Baseband Inputs", 10 QBBP (in) "Differential In-Phase and Quadrature Baseband Inputs", 11 COMM (power) "Input Common Pins. Connect to ground", 12 COMM (power) "Input Common Pins. Connect to ground", 14 COMM (power) "Input Common Pins. Connect to ground", 16 RFOUT (out) "Device Output", 17 COMM (power) "Input Common Pins. Connect to ground", 18 VPS1 (power) "Positive Supply Voltage Pins", 19 COMM (power) "Input Common Pins. Connect to ground", 20 COMM (power) "Input Common Pins. Connect to ground", 21 IBBP (in) "Differential In-Phase and Quadrature Baseband Inputs", 22 IBBN (in) "Differential In-Phase and Quadrature Baseband Inputs", 23 COMM (power) "Input Common Pins. Connect to ground", 24 VPS2 (power) "Positive Supply Voltage Pins", EPAD (power) hidden to GND
text: X/Y; ADL5375

## ADL5380ACPZ
designator D?  (value not drawn)
400 MHz to 6 GHz Quadrature Demodulator; Manufacturer: Analog Devices; Type: Микросхема; BCPId: *; Name: *; Package: CP-24-7; ManufacturerPartNumber: ADL5380ACPZ; HelpURL: *; Price: *; Rem: *; TU/GOST: *
footprint QFN50P400X400X80_HS-25N (QFN, 24-Leads, Body 4,00x4,00mm, Pitch 0,50mm, Thermal Pad 2,75x2,75mm, IPC Medium Density)
pins: 1 GND (power), 2 GND (power), 3 IHI (out) "I Channel Mixer Baseband Output", 4 ILO (out) "I Channel Mixer Baseband Output", 5 GND (power), 6 VCC1 (power) "Positive Supply", 7 ENBL (in) "Enable Control", 8 GND (power), 9 LOIP (in) "Local Oscillator Input", 10 LOIN (in) "Local Oscillator Input", 11 GND (power), 12 NC hidden "No Connect", 13 VCC2 (power) "Positive Supply", 14 GND (power), 15 QLO (out) "Q Channel Mixer Baseband Output", 16 QHI (out) "Q Channel Mixer Baseband Output", 17 GND (power), 18 GND (power), 19 ADJ (in) "A resistor to Vs", 20 GND (power), 21 RFIN (in) "RF Input", 22 RFIP (in) "RF Input", 23 GND (power), 24 VCC3 (power) "Positive Supply", EPAD (power) hidden to GND
text: X/Y; ADL5380

## ADL5513ACPZ
designator D?  (value not drawn)
1 MHz to 4 GHz, 80 dB Logarithmic Detector/Controller; Manufacturer: Analog Devices; Type: Микросхема; BCPId: *; Name: *; Package: CP-16-3; ManufacturerPartNumber: ADL5513ACPZ; HelpURL: *; Price: *; Rem: *; TU/GOST: *
footprint QFN50P300X300X90_HS165x165-17N (QFN, 16-Leads, Body 3,00x3,00mm, Pitch 0,50mm, Thermal Pad 1,65x1,65mm, IPC Medium Density)
pins: 1 VPOS (power) "Positive Supply Voltage, 2.7 V to 5.5 V", 2 INHI (in) "RF Input. AC-coupled RF input", 3 INLO (power) "RF Common for INHI. AC-coupled RF common", 4 VPOS (power) "Positive Supply Voltage, 2.7 V to 5.5 V", 5 NC (power) hidden to GND "No Connect", 6 NC (power) hidden to GND "No Connect", 7 NC (power) hidden to GND "No Connect", 8 NC (power) hidden to GND "No Connect", 9 TADJ (power) "Temperature Compensation Adjustment", 10 COM (power), 11 VSET (power) "Setpoint Input for Operation in Controller Mode", 12 VOUT (power) "Logarithmic/Error Output", 13 NC (power) hidden to GND "No Connect", 14 CLPF "Loop Filter Capacitor Pin", 15 NC (power) hidden to GND "No Connect", 16 NC (power) hidden to GND "No Connect", EPAD GND (power) hidden to GND "Ground Paddle"
text: LOG DK; ADL5513

## ADL5801ACPZ
designator D?  (value not drawn)
High IP3,   10 MHz to 6 GHz, Active Mixer; Manufacturer: Analog Devices; Type: Микросхема; BCPId: *; Name: *; Package: CP-24-3; ManufacturerPartNumber: ADL5801ACPZ; HelpURL: *; Price: *; Rem: *; TU/GOST: *
footprint QFN50P400X400X100-25N (QFN, 24-Leads, Body 4,00x4,00mm, Pitch 0,50mm, Thermal Pad 2.45x2.45mm, IPC Medium Density)
pins: 1 GND (power) "Device Common (DC Ground).", 2 GND (power) "Device Common (DC Ground).", 3 LOIP (in) "Local Oscillator Input", 4 LOIN (in) "Local Oscillator Input", 5 GND (power) "Device Common (DC Ground).", 6 GND (power) "Device Common (DC Ground).", 7 VPLO (power) "Positive Supply Voltage for LO System.", 8 GND (power) "Device Common (DC Ground).", 9 ENBL (in) "Detector and Mixer Bias Enable.", 10 VSET (power) "Input IP3 Bias Adjustment.", 11 DETO (out) "Detector Output.", 12 GND (power) "Device Common (DC Ground).", 13 VPDT (out) "Positive Supply Voltage for Detector.", 14 GND (power) "Device Common (DC Ground).", 15 RFIN (in) "Differential RF Input Terminal.", 16 RFIP (in) "Differential RF Input Terminal.", 17 GND (power) "Device Common (DC Ground).", 18 VPRF (power) "Positive Supply Voltage for RF Input System.", 19 GND (power) "Device Common (DC Ground).", 20 IFOP (out) "Differential IF Output Terminal.", 21 IFON (out) "Differential IF Output Terminal.", 22 NC hidden "Not Connected.", 23 GND (power) "Device Common (DC Ground).", 24 VPLO (power) "Positive Supply Voltage for LO System.", EPAD (power) hidden to GND
text: X/Y; ADL5801

## ADM232AARNZ
designator D?
High-Speed, 5 V , CMOS RS-232; ManufacturerPartNumber: ADM232AARNZ; Manufacturer: Analog Devices; Type: Микросхема; BCPId: *; Price: *; TU/GOST: *; Name: *; Rem: *; Package: R-16
footprint SOIC127P600X175-16N (SOIC, 16-Leads, Body 10,0x4,0mm (max), Pitch 1,27mm, IPC Medium Density)
pins: 1 C1+ "External capacitor 1", 2 V+ (power) "Internally generated positive supply", 3 C1- "External capacitor 1", 4 C2+ "External capacitor 2", 5 C2- "External capacitor 2", 6 V- (power) "Internally generated negative supply", 7 T2 (out) "Transmitter (Driver) Outputs. These are RS-232", 8 R2 (in) "Receiver Inputs. These inputs accept RS-232", 9 R2 (out) "Receiver Outputs. These are TTL/CMOS levels", 10 T2 (in) "Transmitter (Driver) Inputs. These inputs accept", 11 T1 (in) "Transmitter (Driver) Inputs. These inputs accept", 12 R1 (out) "Receiver Outputs. These are TTL/CMOS levels", 13 R1 (in) "Receiver Inputs. These inputs accept RS-232", 14 T1 (out) "Transmitter (Driver) Outputs. These are RS-232", 15 GND (power) "Ground Pin. Must be connected to 0 V", 16 Vcc (power) "Power Supply Input"
text: ADM; 232A

## ADM1062ASUZ
designator D?  (value not drawn)
Super Sequencer with Margining Control and Temperature Monitoring; Manufacturer: Analog Devices; Type: Микросхема; BCPId: *; Name: *; Package: TQFP-48; ManufacturerPartNumber: ADM1062ASUZ; HelpURL: *; Price: *; Rem: *; TU/GOST: *
footprint QFP50P900X900X105-48N (QFP, 48-Leads, Body 9,0x9,0mm (max), Pitch 0,50mm, IPC Medium Density)
pins: 1 NC hidden "No Connection", 2 VX1 (in) "High Impedance Inputs to Supply Fault Detectors", 3 VX2 (in) "High Impedance Inputs to Supply Fault Detectors", 4 VX3 (in) "High Impedance Inputs to Supply Fault Detectors", 5 VX4 (in) "High Impedance Inputs to Supply Fault Detectors", 6 VX5 (in) "High Impedance Inputs to Supply Fault Detectors", 7 VP1 (in) "Low Voltage Inputs to Supply Fault Detectors", 8 VP2 (in) "Low Voltage Inputs to Supply Fault Detectors", 9 VP3 (in) "Low Voltage Inputs to Supply Fault Detectors", 10 VP4 (in) "Low Voltage Inputs to Supply Fault Detectors", 11 VH (in) "High Voltage Input to Supply Fault Detectors", 12 NC hidden "No Connection", 13 NC hidden "No Connection", 14 AGND (power) "Ground Return for Input Attenuators", 15 RGND (power) "Ground Return for On-Chip Reference Circuits", 16 REFIN (in) "Reference Input for ADC", 17 REFOUT (out) "Reference Output, 2.048 V. Typically connected to REFIN", 18 DAC1 (out) "Voltage Output DAC", 19 DAC2 (out) "Voltage Output DAC", 20 DAC3 (out) "Voltage Output DAC", 21 DAC4 (out) "Voltage Output DAC", 22 DAC5 (out) "Voltage Output DAC", 23 DAC6 (out) "Voltage Output DAC", 24 NC hidden "No Connection", 25 NC hidden "No Connection", 26 PDO10 (out) "Programmable Output Driver", 27 PDO9 (out) "Programmable Output Driver", 28 PDO8 (out) "Programmable Output Driver", 29 PDO7 (out) "Programmable Output Driver", 30 PDO6 (out) "Programmable Output Driver", 31 PDO5 (out) "Programmable Output Driver", 32 PDO4 (out) "Programmable Output Driver", 33 PDO3 (out) "Programmable Output Driver", 34 PDO2 (out) "Programmable Output Driver", 35 PDO1 (out) "Programmable Output Driver", 36 NC hidden "No Connection", 37 NC hidden "No Connection", 38 PDGND (power) "Ground Return for Output Drivers", 39 VCCP "Central Charge Pump Voltage of 5.25 V", 40 A0 (in) "Logic Input. SMBus interface address", 41 A1 (in) "Logic Input. SMBus interface address", 42 SCL (io) "SMBus Clock Pin", 43 SDA (io) "SMBus Data Pin", 44 DN "External Temperature Sensor Cathode Connection", 45 DP "External Temperature Sensor Anode Connection", 46 VDDCAP "Device Supply Voltage", 47 GND (power) "Supply Ground", 48 NC hidden "No Connection"
text: SENS; ADM; 1062

## ADM2682E
designator D?  (value not drawn)
RS-485 Isolated transceiver; Manufacturer: Analog Devices; ManufacturerPartNumber: ADM2682EBRIZ; Type: Микросхема; BCPId: *; Name: *; Package: RI-16-1
footprint SOIC127P1030X265-16N - 12.75lenght (SOIC, 16-Leads, Body 12,75x7,50mm, Pitch 1,27mm, IPC Medium Density)
pins: 1 GND1 (power) "Ground", 2 VCC (power) "External Capacitor Connection for the Regulated VCC Supply", 3 RxD (out) "External Capacitor Connection for the Regulated VCC Supply", 4 ~{RE} (in) "External Capacitor Connection for the Regulated VCC Supply", 5 DE (in) "External Capacitor Connection for the Regulated VCC Supply", 6 TxD (in) "External Capacitor Connection for the Regulated VCC Supply", 7 VCC (power) "External Capacitor Connection for the Regulated VCC Supply", 8 GND1 (power) "Ground", 9 GND2 (power) "Power ground", 10 Visoout (power) "Power ground", 11 Y (out) "Power ground", 12 Z (out) "Power ground", 13 B (in) "Power ground", 14 A (in) "Power ground", 15 Visoin (power) "Power ground", 16 GND2 (power) "Power ground"
text: A/B; 2682

## ADM4850
designator D?  (value not drawn)
5 V Selw-Rate Limited Half-Duplex RS-485/RS-422 Transceivers; ManufacturerPartNumber: ADM4850AR; Manufacturer: Analog Devices; Type: Микросхема; BCPId: *; TU/GOST: *; Package: SOIC-8
footprint SOIC127P600-8M (SOIC, 8-Leads, Body 4.9x3.9mm, Pitch 1.27mm, IPC Low Density)
pins: 1 RO (out) "Receiver Output", 2 ~{RE} (out) "Receiver Output Enable", 3 DE (out) "Driver Output Enable", 4 DI (in) "Driver Input", 5 GND (power), 6 A (io) "Noninverting Receiver Input A/Driver Output A", 7 B (io) "Inverting Receiver Input B/Driver Output B", 8 VCC (power) "5 V Power Supply"
text: A/B